# Altium integrated library TSM-108-01-L-SV.IntLib: 1 symbol
Pins are listed as number, name and electrical type; pins without a type are passive.

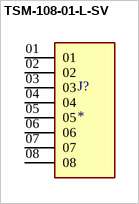
[diagram p0: symbol TSM-108-01-L-SV]

## TSM-108-01-L-SV
designator J?
MF: Samtec; MP: TSM-108-01-L-SV; Availability: Unavailable; Package: None; Price: None; Value: *
footprint SAMTEC_TSM-108-01-L-SV
pins: 01, 02, 03, 04, 05, 06, 07, 08